# EAGLE library part BGM1034N7 (library misc)
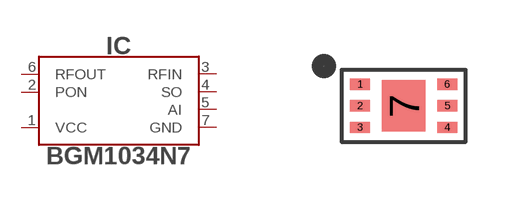
[diagram p93: symbol with the pads of TSNP-7-10; footprint TSNP-7-10]

Designator prefix IC

## BGM1034N7 (DIGIKEY#: BGM 1034N7 E6327CT-ND; MANF: Infineon Technologies; MANF#: BGM 1034N7 E6327)  [TSNP-7-10]
1  VCC
2  PON
3  RFIN
4  SO
5  AI
6  RFOUT
7  GND

## Footprint TSNP-7-10 (pad centres in mm)
smd 0.5 x 0.28: 1 -1.09,0.54; 2 -1.09,0; 3 -1.09,-0.54; 4 1.09,-0.54; 5 1.09,0; 6 1.09,0.54
smd 1.09 x 1.28: 7 0,0